# Altium footprint library CONN-B2B-PH-K-S.PcbLib: 1 footprints
Each footprint in its own frame and in the unit in brackets; x right, y up, seen from the top. Pads: shape width x height; smd on the part's side, far side on the other; paste and mask are expansions set on the pad; w line width, h text height; cw(c..) or ccw(c..) is an arc to the next point about the centre after c.
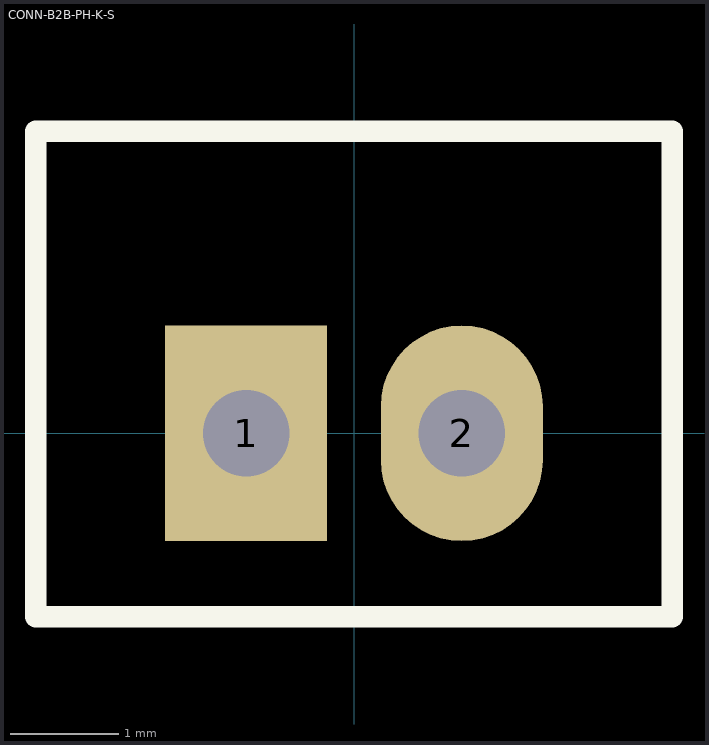
[diagram p0: the footprint, top view; thin cyan lines are the x and y axes]

## CONN-B2B-PH-K-S [mm]
pads (2):
  rect 1.5x2 hole 0.8: 1(-1,0)
  oval 1.5x2 hole 0.8: 2(1,0)
Top Overlay:
  lines w0.2: -2.95,-1.7 -2.95,2.8 2.95,2.8 2.95,-1.7 -2.95,-1.7
Top Assembly:
  lines w0.1: -2.95,-1.7 2.95,-1.7 2.95,2.8 -2.95,2.8 -2.95,-1.7
  text "'.Designator'" at -0.6,0.35 h0.7
3D body "User Library-JST B2B-PH-K-S.step": height 6, standoff -3.4, extent -2.95,-1.7 2.95,2.8